# Altium schematic symbol library jlcpcb_2025_04_inductors_extended_1210.schlib: 422 symbols (part 3 of 8)
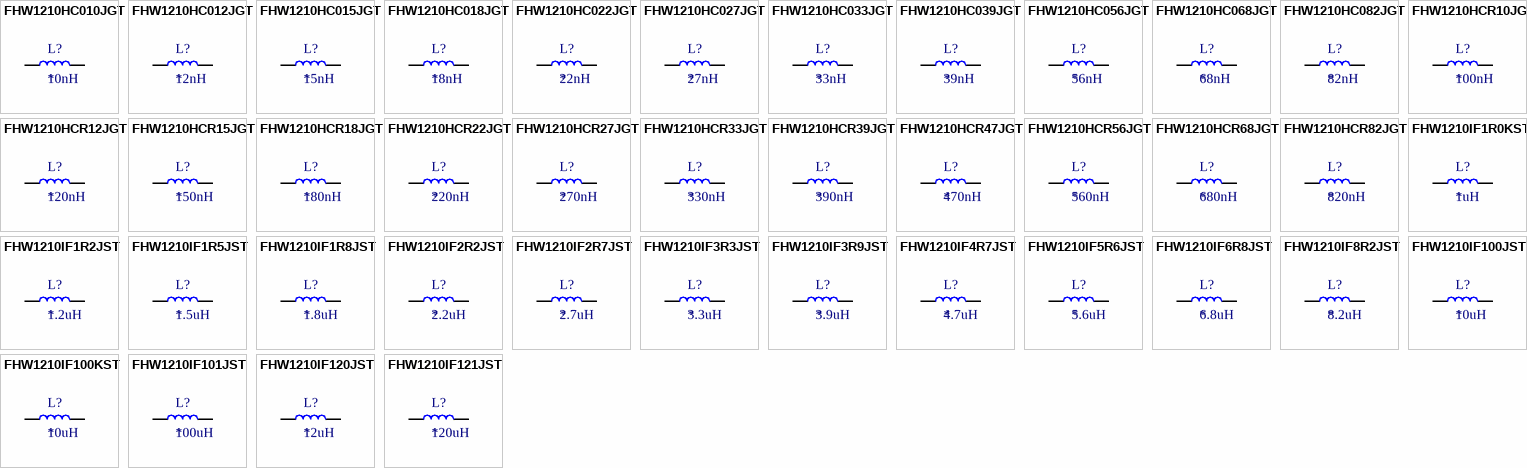
[diagram p12: symbols FHW1210HC010JGT to FHW1210IF121JST]

## FHW1210IF1R2JST
designator L?  Inductance: 1.2uH
Inductor, 1.2uH, ±5%, 300mΩ, 450mA, SMD 1210; Manufacturer: FH(Guangdong Fenghua Advanced Tech); Manufacturer Part Number: FHW1210IF1R2JST; Self-Resonant Frequency: 210MHz; Q Factor: 12@7.96MHz; Package Size: 1210; JLCPCB Basic Part: No; JLCPCB Part Number: C394082; Supplier 1: LCSC; Category: Inductors; Supplier Part Number 1: C394082; Tolerance: ±5%; Rated Current: 450mA; DC Resistance: 300mΩ; RoHS: Yes; ComponentLink1Description: Datasheet; ComponentLink1URL: https://wmsc.lcsc.com/wmsc/upload/file/pdf/v2/lcsc/2303141830_FH--Guangdong-Fenghua-Advanced-Tech-FHW1210IF1R2JST_C394082.pdf; ComponentLink2Description: JLCPCB Part URL; ComponentLink2URL: https://jlcpcb.com/partdetail/C394082; ComponentLink3Description: LCSC Part URL; ComponentLink3URL: https://lcsc.com/product-detail/Inductors-SMD_FH-Guangdong-Fenghua-Advanced-Tech-FH-Guangdong-Fenghua-Advanced-Tech-FHW1210IF1R2JST_C394082.html
footprint IND-1210 (1210 (3225M) Inductor)
pins: 1, 2

## FHW1210IF1R5JST
designator L?  Inductance: 1.5uH
Inductor, 1.5uH, ±5%, 400mΩ, 450mA, SMD 1210; Manufacturer: FH(Guangdong Fenghua Advanced Tech); Manufacturer Part Number: FHW1210IF1R5JST; Self-Resonant Frequency: 200MHz; Q Factor: 12@7.96MHz; Package Size: 1210; JLCPCB Basic Part: No; JLCPCB Part Number: C394083; Supplier 1: LCSC; Category: Inductors; Supplier Part Number 1: C394083; Tolerance: ±5%; Rated Current: 450mA; DC Resistance: 400mΩ; RoHS: Yes; ComponentLink1Description: Datasheet; ComponentLink1URL: https://wmsc.lcsc.com/wmsc/upload/file/pdf/v2/lcsc/2303141830_FH--Guangdong-Fenghua-Advanced-Tech-FHW1210IF1R5JST_C394083.pdf; ComponentLink2Description: JLCPCB Part URL; ComponentLink2URL: https://jlcpcb.com/partdetail/C394083; ComponentLink3Description: LCSC Part URL; ComponentLink3URL: https://lcsc.com/product-detail/Inductors-SMD_FH-Guangdong-Fenghua-Advanced-Tech-FH-Guangdong-Fenghua-Advanced-Tech-FHW1210IF1R5JST_C394083.html
footprint IND-1210 (1210 (3225M) Inductor)
pins: 1, 2

## FHW1210IF1R8JST
designator L?  Inductance: 1.8uH
Inductor, 1.8uH, ±5%, 500mΩ, 450mA, SMD 1210; Manufacturer: FH(Guangdong Fenghua Advanced Tech); Manufacturer Part Number: FHW1210IF1R8JST; Self-Resonant Frequency: 195MHz; Q Factor: 12@7.96MHz; Package Size: 1210; JLCPCB Basic Part: No; JLCPCB Part Number: C394084; Supplier 1: LCSC; Category: Inductors; Supplier Part Number 1: C394084; Tolerance: ±5%; Rated Current: 450mA; DC Resistance: 500mΩ; RoHS: Yes; ComponentLink1Description: Datasheet; ComponentLink1URL: https://wmsc.lcsc.com/wmsc/upload/file/pdf/v2/lcsc/2303141830_FH--Guangdong-Fenghua-Advanced-Tech-FHW1210IF1R8JST_C394084.pdf; ComponentLink2Description: JLCPCB Part URL; ComponentLink2URL: https://jlcpcb.com/partdetail/C394084; ComponentLink3Description: LCSC Part URL; ComponentLink3URL: https://lcsc.com/product-detail/Inductors-SMD_FH-Guangdong-Fenghua-Advanced-Tech-FH-Guangdong-Fenghua-Advanced-Tech-FHW1210IF1R8JST_C394084.html
footprint IND-1210 (1210 (3225M) Inductor)
pins: 1, 2

## FHW1210IF2R2JST
designator L?  Inductance: 2.2uH
Inductor, 2.2uH, ±5%, 600mΩ, 450mA, SMD 1210; Manufacturer: FH(Guangdong Fenghua Advanced Tech); Manufacturer Part Number: FHW1210IF2R2JST; Self-Resonant Frequency: 175MHz; Q Factor: 12@7.96MHz; Package Size: 1210; JLCPCB Basic Part: No; JLCPCB Part Number: C75646; Supplier 1: LCSC; Category: Inductors; Supplier Part Number 1: C75646; Tolerance: ±5%; Rated Current: 450mA; DC Resistance: 600mΩ; RoHS: Yes; ComponentLink1Description: Datasheet; ComponentLink1URL: https://wmsc.lcsc.com/wmsc/upload/file/pdf/v2/lcsc/2303141630_FH--Guangdong-Fenghua-Advanced-Tech-FHW1210IF2R2JST_C75646.pdf; ComponentLink2Description: JLCPCB Part URL; ComponentLink2URL: https://jlcpcb.com/partdetail/C75646; ComponentLink3Description: LCSC Part URL; ComponentLink3URL: https://lcsc.com/product-detail/Inductors-SMD_FH-Guangdong-Fenghua-Advanced-Tech-FH-Guangdong-Fenghua-Advanced-Tech-FHW1210IF2R2JST_C75646.html
footprint IND-1210 (1210 (3225M) Inductor)
pins: 1, 2

## FHW1210IF2R7JST
designator L?  Inductance: 2.7uH
Inductor, 2.7uH, ±5%, 700mΩ, 420mA, SMD 1210; Manufacturer: FH(Guangdong Fenghua Advanced Tech); Manufacturer Part Number: FHW1210IF2R7JST; Self-Resonant Frequency: 120MHz; Q Factor: 12@7.96MHz; Package Size: 1210; JLCPCB Basic Part: No; JLCPCB Part Number: C394085; Supplier 1: LCSC; Category: Inductors; Supplier Part Number 1: C394085; Tolerance: ±5%; Rated Current: 420mA; DC Resistance: 700mΩ; RoHS: Yes; ComponentLink1Description: Datasheet; ComponentLink1URL: https://wmsc.lcsc.com/wmsc/upload/file/pdf/v2/lcsc/2303141830_FH--Guangdong-Fenghua-Advanced-Tech-FHW1210IF2R7JST_C394085.pdf; ComponentLink2Description: JLCPCB Part URL; ComponentLink2URL: https://jlcpcb.com/partdetail/C394085; ComponentLink3Description: LCSC Part URL; ComponentLink3URL: https://lcsc.com/product-detail/Inductors-SMD_FH-Guangdong-Fenghua-Advanced-Tech-FH-Guangdong-Fenghua-Advanced-Tech-FHW1210IF2R7JST_C394085.html
footprint IND-1210 (1210 (3225M) Inductor)
pins: 1, 2

## FHW1210IF3R3JST
designator L?  Inductance: 3.3uH
Inductor, 3.3uH, ±5%, 1.1Ω, 380mA, SMD 1210; Manufacturer: FH(Guangdong Fenghua Advanced Tech); Manufacturer Part Number: FHW1210IF3R3JST; Self-Resonant Frequency: 80MHz; Q Factor: 12@7.96MHz; Package Size: 1210; JLCPCB Basic Part: No; JLCPCB Part Number: C75647; Supplier 1: LCSC; Category: Inductors; Supplier Part Number 1: C75647; Tolerance: ±5%; Rated Current: 380mA; DC Resistance: 1.1Ω; RoHS: Yes; ComponentLink1Description: Datasheet; ComponentLink1URL: https://wmsc.lcsc.com/wmsc/upload/file/pdf/v2/lcsc/2303141630_FH--Guangdong-Fenghua-Advanced-Tech-FHW1210IF3R3JST_C75647.pdf; ComponentLink2Description: JLCPCB Part URL; ComponentLink2URL: https://jlcpcb.com/partdetail/C75647; ComponentLink3Description: LCSC Part URL; ComponentLink3URL: https://lcsc.com/product-detail/Inductors-SMD_FH-Guangdong-Fenghua-Advanced-Tech-FH-Guangdong-Fenghua-Advanced-Tech-FHW1210IF3R3JST_C75647.html
footprint IND-1210 (1210 (3225M) Inductor)
pins: 1, 2

## FHW1210IF3R9JST
designator L?  Inductance: 3.9uH
Inductor, 3.9uH, ±5%, 1.2Ω, 360mA, SMD 1210; Manufacturer: FH(Guangdong Fenghua Advanced Tech); Manufacturer Part Number: FHW1210IF3R9JST; Self-Resonant Frequency: 75MHz; Q Factor: 12@7.96MHz; Package Size: 1210; JLCPCB Basic Part: No; JLCPCB Part Number: C394086; Supplier 1: LCSC; Category: Inductors; Supplier Part Number 1: C394086; Tolerance: ±5%; Rated Current: 360mA; DC Resistance: 1.2Ω; RoHS: Yes; ComponentLink1Description: Datasheet; ComponentLink1URL: https://wmsc.lcsc.com/wmsc/upload/file/pdf/v2/lcsc/2303141830_FH--Guangdong-Fenghua-Advanced-Tech-FHW1210IF3R9JST_C394086.pdf; ComponentLink2Description: JLCPCB Part URL; ComponentLink2URL: https://jlcpcb.com/partdetail/C394086; ComponentLink3Description: LCSC Part URL; ComponentLink3URL: https://lcsc.com/product-detail/Inductors-SMD_FH-Guangdong-Fenghua-Advanced-Tech-FH-Guangdong-Fenghua-Advanced-Tech-FHW1210IF3R9JST_C394086.html
footprint IND-1210 (1210 (3225M) Inductor)
pins: 1, 2

## FHW1210IF4R7JST
designator L?  Inductance: 4.7uH
Inductor, 4.7uH, ±5%, 1.3Ω, 350mA, SMD 1210; Manufacturer: FH(Guangdong Fenghua Advanced Tech); Manufacturer Part Number: FHW1210IF4R7JST; Self-Resonant Frequency: 60MHz; Q Factor: 12@7.96MHz; Package Size: 1210; JLCPCB Basic Part: No; JLCPCB Part Number: C75642; Supplier 1: LCSC; Category: Inductors; Supplier Part Number 1: C75642; Tolerance: ±5%; Rated Current: 350mA; DC Resistance: 1.3Ω; RoHS: Yes; ComponentLink1Description: Datasheet; ComponentLink1URL: https://wmsc.lcsc.com/wmsc/upload/file/pdf/v2/lcsc/2303141630_FH--Guangdong-Fenghua-Advanced-Tech-FHW1210IF4R7JST_C75642.pdf; ComponentLink2Description: JLCPCB Part URL; ComponentLink2URL: https://jlcpcb.com/partdetail/C75642; ComponentLink3Description: LCSC Part URL; ComponentLink3URL: https://lcsc.com/product-detail/Inductors-SMD_FH-Guangdong-Fenghua-Advanced-Tech-FH-Guangdong-Fenghua-Advanced-Tech-FHW1210IF4R7JST_C75642.html
footprint IND-1210 (1210 (3225M) Inductor)
pins: 1, 2

## FHW1210IF5R6JST
designator L?  Inductance: 5.6uH
Inductor, 5.6uH, ±5%, 2Ω, 320mA, SMD 1210; Manufacturer: FH(Guangdong Fenghua Advanced Tech); Manufacturer Part Number: FHW1210IF5R6JST; Self-Resonant Frequency: 50MHz; Q Factor: 12@7.96MHz; Package Size: 1210; JLCPCB Basic Part: No; JLCPCB Part Number: C394087; Supplier 1: LCSC; Category: Inductors; Supplier Part Number 1: C394087; Tolerance: ±5%; Rated Current: 320mA; DC Resistance: 2Ω; RoHS: Yes; ComponentLink1Description: Datasheet; ComponentLink1URL: https://wmsc.lcsc.com/wmsc/upload/file/pdf/v2/lcsc/2303141830_FH--Guangdong-Fenghua-Advanced-Tech-FHW1210IF5R6JST_C394087.pdf; ComponentLink2Description: JLCPCB Part URL; ComponentLink2URL: https://jlcpcb.com/partdetail/C394087; ComponentLink3Description: LCSC Part URL; ComponentLink3URL: https://lcsc.com/product-detail/Inductors-SMD_FH-Guangdong-Fenghua-Advanced-Tech-FH-Guangdong-Fenghua-Advanced-Tech-FHW1210IF5R6JST_C394087.html
footprint IND-1210 (1210 (3225M) Inductor)
pins: 1, 2

## FHW1210IF6R8JST
designator L?  Inductance: 6.8uH
Inductor, 6.8uH, ±5%, 1.5Ω, 310mA, SMD 1210; Manufacturer: FH(Guangdong Fenghua Advanced Tech); Manufacturer Part Number: FHW1210IF6R8JST; Self-Resonant Frequency: 35MHz; Q Factor: 12@7.96MHz; Package Size: 1210; JLCPCB Basic Part: No; JLCPCB Part Number: C394088; Supplier 1: LCSC; Category: Inductors; Supplier Part Number 1: C394088; Tolerance: ±5%; Rated Current: 310mA; DC Resistance: 1.5Ω; RoHS: Yes; ComponentLink1Description: Datasheet; ComponentLink1URL: https://wmsc.lcsc.com/wmsc/upload/file/pdf/v2/lcsc/2303141830_FH--Guangdong-Fenghua-Advanced-Tech-FHW1210IF6R8JST_C394088.pdf; ComponentLink2Description: JLCPCB Part URL; ComponentLink2URL: https://jlcpcb.com/partdetail/C394088; ComponentLink3Description: LCSC Part URL; ComponentLink3URL: https://lcsc.com/product-detail/Inductors-SMD_FH-Guangdong-Fenghua-Advanced-Tech-FH-Guangdong-Fenghua-Advanced-Tech-FHW1210IF6R8JST_C394088.html
footprint IND-1210 (1210 (3225M) Inductor)
pins: 1, 2

## FHW1210IF8R2JST
designator L?  Inductance: 8.2uH
Inductor, 8.2uH, ±5%, 1.6Ω, 305mA, SMD 1210; Manufacturer: FH(Guangdong Fenghua Advanced Tech); Manufacturer Part Number: FHW1210IF8R2JST; Self-Resonant Frequency: 35MHz; Q Factor: 12@7.96MHz; Package Size: 1210; JLCPCB Basic Part: No; JLCPCB Part Number: C394089; Supplier 1: LCSC; Category: Inductors; Supplier Part Number 1: C394089; Tolerance: ±5%; Rated Current: 305mA; DC Resistance: 1.6Ω; RoHS: Yes; ComponentLink1Description: Datasheet; ComponentLink1URL: https://wmsc.lcsc.com/wmsc/upload/file/pdf/v2/lcsc/2303141830_FH--Guangdong-Fenghua-Advanced-Tech-FHW1210IF8R2JST_C394089.pdf; ComponentLink2Description: JLCPCB Part URL; ComponentLink2URL: https://jlcpcb.com/partdetail/C394089; ComponentLink3Description: LCSC Part URL; ComponentLink3URL: https://lcsc.com/product-detail/Inductors-SMD_FH-Guangdong-Fenghua-Advanced-Tech-FH-Guangdong-Fenghua-Advanced-Tech-FHW1210IF8R2JST_C394089.html
footprint IND-1210 (1210 (3225M) Inductor)
pins: 1, 2

## FHW1210IF100JST
designator L?  Inductance: 10uH
Inductor, 10uH, ±5%, 1Ω, 300mA, SMD 1210; Manufacturer: FH(Guangdong Fenghua Advanced Tech); Manufacturer Part Number: FHW1210IF100JST; Self-Resonant Frequency: 30MHz; Q Factor: 10@2.52MHz; Package Size: 1210; JLCPCB Basic Part: No; JLCPCB Part Number: C75643; Supplier 1: LCSC; Category: Inductors; Supplier Part Number 1: C75643; Tolerance: ±5%; Rated Current: 300mA; DC Resistance: 1Ω; RoHS: Yes; ComponentLink1Description: Datasheet; ComponentLink1URL: https://wmsc.lcsc.com/wmsc/upload/file/pdf/v2/lcsc/2303141630_FH--Guangdong-Fenghua-Advanced-Tech-FHW1210IF100JST_C75643.pdf; ComponentLink2Description: JLCPCB Part URL; ComponentLink2URL: https://jlcpcb.com/partdetail/C75643; ComponentLink3Description: LCSC Part URL; ComponentLink3URL: https://lcsc.com/product-detail/Inductors-SMD_FH-Guangdong-Fenghua-Advanced-Tech-FH-Guangdong-Fenghua-Advanced-Tech-FHW1210IF100JST_C75643.html
footprint IND-1210 (1210 (3225M) Inductor)
pins: 1, 2

## FHW1210IF100KST
designator L?  Inductance: 10uH
Inductor, 10uH, ±10%, SMD 1210; Manufacturer: FH (Guangdong Fenghua Advanced Tech); Manufacturer Part Number: FHW1210IF100KST; Package Size: 1210; JLCPCB Basic Part: No; JLCPCB Part Number: C2939820; Supplier 1: LCSC; Category: Inductors; Supplier Part Number 1: C2939820; Tolerance: ±10%; RoHS: Yes; ComponentLink1Description: Datasheet; ComponentLink1URL: https://wmsc.lcsc.com/wmsc/upload/file/pdf/v2/lcsc/2303141800_FH--Guangdong-Fenghua-Advanced-Tech-FHW1210IF100KST_C2939820.pdf; ComponentLink2Description: JLCPCB Part URL; ComponentLink2URL: https://jlcpcb.com/partdetail/C2939820; ComponentLink3Description: LCSC Part URL; ComponentLink3URL: https://lcsc.com/product-detail/Inductors-SMD_FH-Guangdong-Fenghua-Advanced-Tech-FH-Guangdong-Fenghua-Advanced-Tech-FHW1210IF100KST_C2939820.html
footprint IND-1210 (1210 (3225M) Inductor)
pins: 1, 2

## FHW1210IF101JST
designator L?  Inductance: 100uH
Inductor, 100uH, ±5%, 6.8Ω, 95mA, SMD 1210; Manufacturer: FH(Guangdong Fenghua Advanced Tech); Manufacturer Part Number: FHW1210IF101JST; Self-Resonant Frequency: 5MHz; Q Factor: 8@796kHz; Package Size: 1210; JLCPCB Basic Part: No; JLCPCB Part Number: C394100; Supplier 1: LCSC; Category: Inductors; Supplier Part Number 1: C394100; Tolerance: ±5%; Rated Current: 95mA; DC Resistance: 6.8Ω; RoHS: Yes; ComponentLink1Description: Datasheet; ComponentLink1URL: https://wmsc.lcsc.com/wmsc/upload/file/pdf/v2/lcsc/2303141830_FH--Guangdong-Fenghua-Advanced-Tech-FHW1210IF101JST_C394100.pdf; ComponentLink2Description: JLCPCB Part URL; ComponentLink2URL: https://jlcpcb.com/partdetail/C394100; ComponentLink3Description: LCSC Part URL; ComponentLink3URL: https://lcsc.com/product-detail/Inductors-SMD_FH-Guangdong-Fenghua-Advanced-Tech-FH-Guangdong-Fenghua-Advanced-Tech-FHW1210IF101JST_C394100.html
footprint IND-1210 (1210 (3225M) Inductor)
pins: 1, 2

## FHW1210IF120JST
designator L?  Inductance: 12uH
Inductor, 12uH, ±5%, 1.2Ω, 265mA, SMD 1210; Manufacturer: FH(Guangdong Fenghua Advanced Tech); Manufacturer Part Number: FHW1210IF120JST; Self-Resonant Frequency: 25MHz; Q Factor: 10@2.52MHz; Package Size: 1210; JLCPCB Basic Part: No; JLCPCB Part Number: C394090; Supplier 1: LCSC; Category: Inductors; Supplier Part Number 1: C394090; Tolerance: ±5%; Rated Current: 265mA; DC Resistance: 1.2Ω; RoHS: Yes; ComponentLink1Description: Datasheet; ComponentLink1URL: https://wmsc.lcsc.com/wmsc/upload/file/pdf/v2/lcsc/2303141830_FH--Guangdong-Fenghua-Advanced-Tech-FHW1210IF120JST_C394090.pdf; ComponentLink2Description: JLCPCB Part URL; ComponentLink2URL: https://jlcpcb.com/partdetail/C394090; ComponentLink3Description: LCSC Part URL; ComponentLink3URL: https://lcsc.com/product-detail/Inductors-SMD_FH-Guangdong-Fenghua-Advanced-Tech-FH-Guangdong-Fenghua-Advanced-Tech-FHW1210IF120JST_C394090.html
footprint IND-1210 (1210 (3225M) Inductor)
pins: 1, 2

## FHW1210IF121JST
designator L?  Inductance: 120uH
Inductor, 120uH, ±5%, 7.9Ω, 85mA, SMD 1210; Manufacturer: FH(Guangdong Fenghua Advanced Tech); Manufacturer Part Number: FHW1210IF121JST; Self-Resonant Frequency: 4MHz; Q Factor: 8@796kHz; Package Size: 1210; JLCPCB Basic Part: No; JLCPCB Part Number: C394101; Supplier 1: LCSC; Category: Inductors; Supplier Part Number 1: C394101; Tolerance: ±5%; Rated Current: 85mA; DC Resistance: 7.9Ω; RoHS: Yes; ComponentLink1Description: Datasheet; ComponentLink1URL: https://wmsc.lcsc.com/wmsc/upload/file/pdf/v2/lcsc/2303141830_FH--Guangdong-Fenghua-Advanced-Tech-FHW1210IF121JST_C394101.pdf; ComponentLink2Description: JLCPCB Part URL; ComponentLink2URL: https://jlcpcb.com/partdetail/C394101; ComponentLink3Description: LCSC Part URL; ComponentLink3URL: https://lcsc.com/product-detail/Inductors-SMD_FH-Guangdong-Fenghua-Advanced-Tech-FH-Guangdong-Fenghua-Advanced-Tech-FHW1210IF121JST_C394101.html
footprint IND-1210 (1210 (3225M) Inductor)
pins: 1, 2

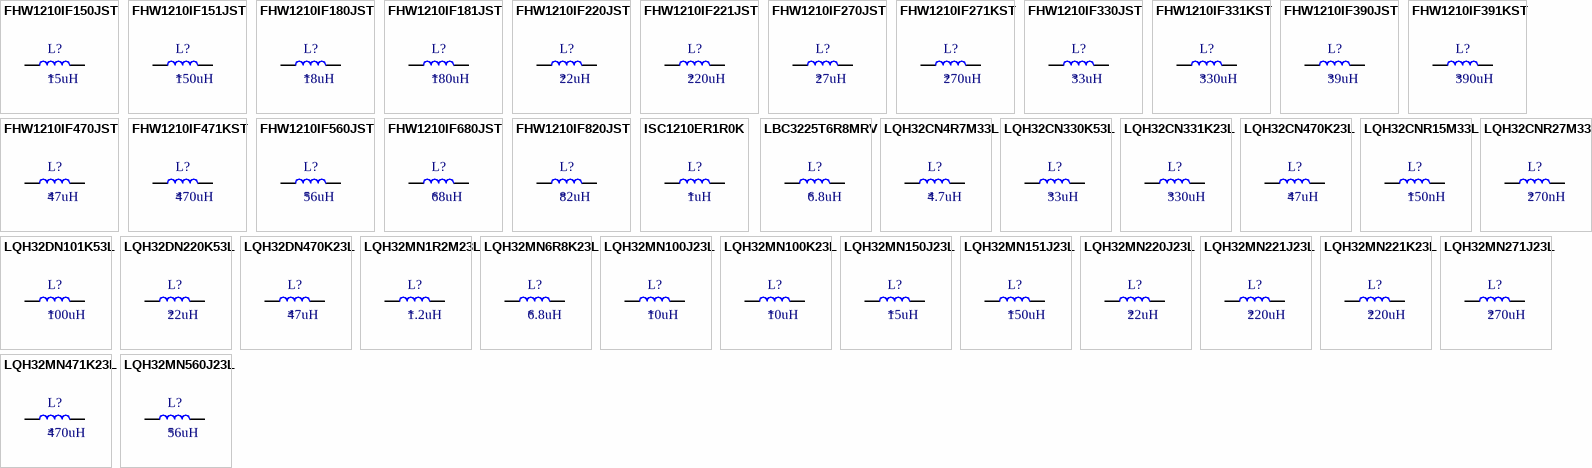
[diagram p3: symbols FHW1210IF150JST to LQH32MN560J23L]

## FHW1210IF150JST
designator L?  Inductance: 15uH
Inductor, 15uH, ±5%, 2Ω, 225mA, SMD 1210; Manufacturer: FH(Guangdong Fenghua Advanced Tech); Manufacturer Part Number: FHW1210IF150JST; Self-Resonant Frequency: 22MHz; Q Factor: 10@2.52MHz; Package Size: 1210; JLCPCB Basic Part: No; JLCPCB Part Number: C394091; Supplier 1: LCSC; Category: Inductors; Supplier Part Number 1: C394091; Tolerance: ±5%; Rated Current: 225mA; DC Resistance: 2Ω; RoHS: Yes; ComponentLink1Description: Datasheet; ComponentLink1URL: https://wmsc.lcsc.com/wmsc/upload/file/pdf/v2/lcsc/2303141830_FH--Guangdong-Fenghua-Advanced-Tech-FHW1210IF150JST_C394091.pdf; ComponentLink2Description: JLCPCB Part URL; ComponentLink2URL: https://jlcpcb.com/partdetail/C394091; ComponentLink3Description: LCSC Part URL; ComponentLink3URL: https://lcsc.com/product-detail/Inductors-SMD_FH-Guangdong-Fenghua-Advanced-Tech-FH-Guangdong-Fenghua-Advanced-Tech-FHW1210IF150JST_C394091.html
footprint IND-1210 (1210 (3225M) Inductor)
pins: 1, 2

## FHW1210IF151JST
designator L?  Inductance: 150uH
Inductor, 150uH, ±5%, 9Ω, 80mA, SMD 1210; Manufacturer: FH(Guangdong Fenghua Advanced Tech); Manufacturer Part Number: FHW1210IF151JST; Self-Resonant Frequency: 4MHz; Q Factor: 8@796kHz; Package Size: 1210; JLCPCB Basic Part: No; JLCPCB Part Number: C394102; Supplier 1: LCSC; Category: Inductors; Supplier Part Number 1: C394102; Tolerance: ±5%; Rated Current: 80mA; DC Resistance: 9Ω; RoHS: Yes; ComponentLink1Description: Datasheet; ComponentLink1URL: https://wmsc.lcsc.com/wmsc/upload/file/pdf/v2/lcsc/2303141830_FH--Guangdong-Fenghua-Advanced-Tech-FHW1210IF151JST_C394102.pdf; ComponentLink2Description: JLCPCB Part URL; ComponentLink2URL: https://jlcpcb.com/partdetail/C394102; ComponentLink3Description: LCSC Part URL; ComponentLink3URL: https://lcsc.com/product-detail/Inductors-SMD_FH-Guangdong-Fenghua-Advanced-Tech-FH-Guangdong-Fenghua-Advanced-Tech-FHW1210IF151JST_C394102.html
footprint IND-1210 (1210 (3225M) Inductor)
pins: 1, 2

## FHW1210IF180JST
designator L?  Inductance: 18uH
Inductor, 18uH, ±5%, 2.1Ω, 210mA, SMD 1210; Manufacturer: FH(Guangdong Fenghua Advanced Tech); Manufacturer Part Number: FHW1210IF180JST; Self-Resonant Frequency: 22MHz; Q Factor: 10@2.52MHz; Package Size: 1210; JLCPCB Basic Part: No; JLCPCB Part Number: C394092; Supplier 1: LCSC; Category: Inductors; Supplier Part Number 1: C394092; Tolerance: ±5%; Rated Current: 210mA; DC Resistance: 2.1Ω; RoHS: Yes; ComponentLink1Description: Datasheet; ComponentLink1URL: https://wmsc.lcsc.com/wmsc/upload/file/pdf/v2/lcsc/2303141830_FH--Guangdong-Fenghua-Advanced-Tech-FHW1210IF180JST_C394092.pdf; ComponentLink2Description: JLCPCB Part URL; ComponentLink2URL: https://jlcpcb.com/partdetail/C394092; ComponentLink3Description: LCSC Part URL; ComponentLink3URL: https://lcsc.com/product-detail/Inductors-SMD_FH-Guangdong-Fenghua-Advanced-Tech-FH-Guangdong-Fenghua-Advanced-Tech-FHW1210IF180JST_C394092.html
footprint IND-1210 (1210 (3225M) Inductor)
pins: 1, 2

## FHW1210IF181JST
designator L?  Inductance: 180uH
Inductor, 180uH, ±5%, 14.5Ω, 70mA, SMD 1210; Manufacturer: FH(Guangdong Fenghua Advanced Tech); Manufacturer Part Number: FHW1210IF181JST; Self-Resonant Frequency: 3MHz; Q Factor: 8@796kHz; Package Size: 1210; JLCPCB Basic Part: No; JLCPCB Part Number: C394103; Supplier 1: LCSC; Category: Inductors; Supplier Part Number 1: C394103; Tolerance: ±5%; Rated Current: 70mA; DC Resistance: 14.5Ω; RoHS: Yes; ComponentLink1Description: Datasheet; ComponentLink1URL: https://wmsc.lcsc.com/wmsc/upload/file/pdf/v2/lcsc/2303141830_FH--Guangdong-Fenghua-Advanced-Tech-FHW1210IF181JST_C394103.pdf; ComponentLink2Description: JLCPCB Part URL; ComponentLink2URL: https://jlcpcb.com/partdetail/C394103; ComponentLink3Description: LCSC Part URL; ComponentLink3URL: https://lcsc.com/product-detail/Inductors-SMD_FH-Guangdong-Fenghua-Advanced-Tech-FH-Guangdong-Fenghua-Advanced-Tech-FHW1210IF181JST_C394103.html
footprint IND-1210 (1210 (3225M) Inductor)
pins: 1, 2

## FHW1210IF220JST
designator L?  Inductance: 22uH
Inductor, 22uH, ±5%, 2.4Ω, 200mA, SMD 1210; Manufacturer: FH(Guangdong Fenghua Advanced Tech); Manufacturer Part Number: FHW1210IF220JST; Self-Resonant Frequency: 20MHz; Q Factor: 10@2.52MHz; Package Size: 1210; JLCPCB Basic Part: No; JLCPCB Part Number: C394093; Supplier 1: LCSC; Category: Inductors; Supplier Part Number 1: C394093; Tolerance: ±5%; Rated Current: 200mA; DC Resistance: 2.4Ω; RoHS: Yes; ComponentLink1Description: Datasheet; ComponentLink1URL: https://wmsc.lcsc.com/wmsc/upload/file/pdf/v2/lcsc/2303141830_FH--Guangdong-Fenghua-Advanced-Tech-FHW1210IF220JST_C394093.pdf; ComponentLink2Description: JLCPCB Part URL; ComponentLink2URL: https://jlcpcb.com/partdetail/C394093; ComponentLink3Description: LCSC Part URL; ComponentLink3URL: https://lcsc.com/product-detail/Inductors-SMD_FH-Guangdong-Fenghua-Advanced-Tech-FH-Guangdong-Fenghua-Advanced-Tech-FHW1210IF220JST_C394093.html
footprint IND-1210 (1210 (3225M) Inductor)
pins: 1, 2

## FHW1210IF221JST
designator L?  Inductance: 220uH
Inductor, 220uH, ±5%, 16.5Ω, 65mA, SMD 1210; Manufacturer: FH(Guangdong Fenghua Advanced Tech); Manufacturer Part Number: FHW1210IF221JST; Self-Resonant Frequency: 2.6MHz; Q Factor: 8@796kHz; Package Size: 1210; JLCPCB Basic Part: No; JLCPCB Part Number: C394104; Supplier 1: LCSC; Category: Inductors; Supplier Part Number 1: C394104; Tolerance: ±5%; Rated Current: 65mA; DC Resistance: 16.5Ω; RoHS: Yes; ComponentLink1Description: Datasheet; ComponentLink1URL: https://wmsc.lcsc.com/wmsc/upload/file/pdf/v2/lcsc/2303141830_FH--Guangdong-Fenghua-Advanced-Tech-FHW1210IF221JST_C394104.pdf; ComponentLink2Description: JLCPCB Part URL; ComponentLink2URL: https://jlcpcb.com/partdetail/C394104; ComponentLink3Description: LCSC Part URL; ComponentLink3URL: https://lcsc.com/product-detail/Inductors-SMD_FH-Guangdong-Fenghua-Advanced-Tech-FH-Guangdong-Fenghua-Advanced-Tech-FHW1210IF221JST_C394104.html
footprint IND-1210 (1210 (3225M) Inductor)
pins: 1, 2

## FHW1210IF270JST
designator L?  Inductance: 27uH
Inductor, 27uH, ±5%, 2.7Ω, 180mA, SMD 1210; Manufacturer: FH(Guangdong Fenghua Advanced Tech); Manufacturer Part Number: FHW1210IF270JST; Self-Resonant Frequency: 18MHz; Q Factor: 10@2.52MHz; Package Size: 1210; JLCPCB Basic Part: No; JLCPCB Part Number: C394094; Supplier 1: LCSC; Category: Inductors; Supplier Part Number 1: C394094; Tolerance: ±5%; Rated Current: 180mA; DC Resistance: 2.7Ω; RoHS: Yes; ComponentLink1Description: Datasheet; ComponentLink1URL: https://wmsc.lcsc.com/wmsc/upload/file/pdf/v2/lcsc/2303141830_FH--Guangdong-Fenghua-Advanced-Tech-FHW1210IF270JST_C394094.pdf; ComponentLink2Description: JLCPCB Part URL; ComponentLink2URL: https://jlcpcb.com/partdetail/C394094; ComponentLink3Description: LCSC Part URL; ComponentLink3URL: https://lcsc.com/product-detail/Inductors-SMD_FH-Guangdong-Fenghua-Advanced-Tech-FH-Guangdong-Fenghua-Advanced-Tech-FHW1210IF270JST_C394094.html
footprint IND-1210 (1210 (3225M) Inductor)
pins: 1, 2

## FHW1210IF271KST
designator L?  Inductance: 270uH
Inductor, 270uH, ±10%, 18Ω, 60mA, SMD 1210; Manufacturer: FH(Guangdong Fenghua Advanced Tech); Manufacturer Part Number: FHW1210IF271KST; Self-Resonant Frequency: 2.5MHz; Q Factor: 8@796kHz; Package Size: 1210; JLCPCB Basic Part: No; JLCPCB Part Number: C394105; Supplier 1: LCSC; Category: Inductors; Supplier Part Number 1: C394105; Tolerance: ±10%; Rated Current: 60mA; DC Resistance: 18Ω; RoHS: Yes; ComponentLink1Description: Datasheet; ComponentLink1URL: https://wmsc.lcsc.com/wmsc/upload/file/pdf/v2/lcsc/2303141830_FH--Guangdong-Fenghua-Advanced-Tech-FHW1210IF271KST_C394105.pdf; ComponentLink2Description: JLCPCB Part URL; ComponentLink2URL: https://jlcpcb.com/partdetail/C394105; ComponentLink3Description: LCSC Part URL; ComponentLink3URL: https://lcsc.com/product-detail/Inductors-SMD_FH-Guangdong-Fenghua-Advanced-Tech-FH-Guangdong-Fenghua-Advanced-Tech-FHW1210IF271KST_C394105.html
footprint IND-1210 (1210 (3225M) Inductor)
pins: 1, 2

## FHW1210IF330JST
designator L?  Inductance: 33uH
Inductor, 33uH, ±5%, 2.9Ω, 160mA, SMD 1210; Manufacturer: FH(Guangdong Fenghua Advanced Tech); Manufacturer Part Number: FHW1210IF330JST; Self-Resonant Frequency: 15MHz; Q Factor: 10@2.52MHz; Package Size: 1210; JLCPCB Basic Part: No; JLCPCB Part Number: C75645; Supplier 1: LCSC; Category: Inductors; Supplier Part Number 1: C75645; Tolerance: ±5%; Rated Current: 160mA; DC Resistance: 2.9Ω; RoHS: Yes; ComponentLink1Description: Datasheet; ComponentLink1URL: https://wmsc.lcsc.com/wmsc/upload/file/pdf/v2/lcsc/2303141630_FH--Guangdong-Fenghua-Advanced-Tech-FHW1210IF330JST_C75645.pdf; ComponentLink2Description: JLCPCB Part URL; ComponentLink2URL: https://jlcpcb.com/partdetail/C75645; ComponentLink3Description: LCSC Part URL; ComponentLink3URL: https://lcsc.com/product-detail/Inductors-SMD_FH-Guangdong-Fenghua-Advanced-Tech-FH-Guangdong-Fenghua-Advanced-Tech-FHW1210IF330JST_C75645.html
footprint IND-1210 (1210 (3225M) Inductor)
pins: 1, 2

## FHW1210IF331KST
designator L?  Inductance: 330uH
Inductor, 330uH, ±10%, 19Ω, 55mA, SMD 1210; Manufacturer: FH(Guangdong Fenghua Advanced Tech); Manufacturer Part Number: FHW1210IF331KST; Self-Resonant Frequency: 2.3MHz; Q Factor: 8@796kHz; Package Size: 1210; JLCPCB Basic Part: No; JLCPCB Part Number: C394106; Supplier 1: LCSC; Category: Inductors; Supplier Part Number 1: C394106; Tolerance: ±10%; Rated Current: 55mA; DC Resistance: 19Ω; RoHS: Yes; ComponentLink1Description: Datasheet; ComponentLink1URL: https://wmsc.lcsc.com/wmsc/upload/file/pdf/v2/lcsc/2303141830_FH--Guangdong-Fenghua-Advanced-Tech-FHW1210IF331KST_C394106.pdf; ComponentLink2Description: JLCPCB Part URL; ComponentLink2URL: https://jlcpcb.com/partdetail/C394106; ComponentLink3Description: LCSC Part URL; ComponentLink3URL: https://lcsc.com/product-detail/Inductors-SMD_FH-Guangdong-Fenghua-Advanced-Tech-FH-Guangdong-Fenghua-Advanced-Tech-FHW1210IF331KST_C394106.html
footprint IND-1210 (1210 (3225M) Inductor)
pins: 1, 2

## FHW1210IF390JST
designator L?  Inductance: 39uH
Inductor, 39uH, ±5%, 4.7Ω, 150mA, SMD 1210; Manufacturer: FH(Guangdong Fenghua Advanced Tech); Manufacturer Part Number: FHW1210IF390JST; Self-Resonant Frequency: 16MHz; Q Factor: 10@2.52MHz; Package Size: 1210; JLCPCB Basic Part: No; JLCPCB Part Number: C394095; Supplier 1: LCSC; Category: Inductors; Supplier Part Number 1: C394095; Tolerance: ±5%; Rated Current: 150mA; DC Resistance: 4.7Ω; RoHS: Yes; ComponentLink1Description: Datasheet; ComponentLink1URL: https://wmsc.lcsc.com/wmsc/upload/file/pdf/v2/lcsc/2303141830_FH--Guangdong-Fenghua-Advanced-Tech-FHW1210IF390JST_C394095.pdf; ComponentLink2Description: JLCPCB Part URL; ComponentLink2URL: https://jlcpcb.com/partdetail/C394095; ComponentLink3Description: LCSC Part URL; ComponentLink3URL: https://lcsc.com/product-detail/Inductors-SMD_FH-Guangdong-Fenghua-Advanced-Tech-FH-Guangdong-Fenghua-Advanced-Tech-FHW1210IF390JST_C394095.html
footprint IND-1210 (1210 (3225M) Inductor)
pins: 1, 2

## FHW1210IF391KST
designator L?  Inductance: 390uH
Inductor, 390uH, ±10%, 21.5Ω, 45mA, SMD 1210; Manufacturer: FH(Guangdong Fenghua Advanced Tech); Manufacturer Part Number: FHW1210IF391KST; Self-Resonant Frequency: 2.2MHz; Q Factor: 8@796kHz; Package Size: 1210; JLCPCB Basic Part: No; JLCPCB Part Number: C394107; Supplier 1: LCSC; Category: Inductors; Supplier Part Number 1: C394107; Tolerance: ±10%; Rated Current: 45mA; DC Resistance: 21.5Ω; RoHS: Yes; ComponentLink1Description: Datasheet; ComponentLink1URL: https://wmsc.lcsc.com/wmsc/upload/file/pdf/v2/lcsc/2303141830_FH--Guangdong-Fenghua-Advanced-Tech-FHW1210IF391KST_C394107.pdf; ComponentLink2Description: JLCPCB Part URL; ComponentLink2URL: https://jlcpcb.com/partdetail/C394107; ComponentLink3Description: LCSC Part URL; ComponentLink3URL: https://lcsc.com/product-detail/Inductors-SMD_FH-Guangdong-Fenghua-Advanced-Tech-FH-Guangdong-Fenghua-Advanced-Tech-FHW1210IF391KST_C394107.html
footprint IND-1210 (1210 (3225M) Inductor)
pins: 1, 2

## FHW1210IF470JST
designator L?  Inductance: 47uH
Inductor, 47uH, ±5%, 5.2Ω, 140mA, SMD 1210; Manufacturer: FH(Guangdong Fenghua Advanced Tech); Manufacturer Part Number: FHW1210IF470JST; Self-Resonant Frequency: 10MHz; Q Factor: 10@2.52MHz; Package Size: 1210; JLCPCB Basic Part: No; JLCPCB Part Number: C394096; Supplier 1: LCSC; Category: Inductors; Supplier Part Number 1: C394096; Tolerance: ±5%; Rated Current: 140mA; DC Resistance: 5.2Ω; RoHS: Yes; ComponentLink1Description: Datasheet; ComponentLink1URL: https://wmsc.lcsc.com/wmsc/upload/file/pdf/v2/lcsc/2303141830_FH--Guangdong-Fenghua-Advanced-Tech-FHW1210IF470JST_C394096.pdf; ComponentLink2Description: JLCPCB Part URL; ComponentLink2URL: https://jlcpcb.com/partdetail/C394096; ComponentLink3Description: LCSC Part URL; ComponentLink3URL: https://lcsc.com/product-detail/Inductors-SMD_FH-Guangdong-Fenghua-Advanced-Tech-FH-Guangdong-Fenghua-Advanced-Tech-FHW1210IF470JST_C394096.html
footprint IND-1210 (1210 (3225M) Inductor)
pins: 1, 2

## FHW1210IF471KST
designator L?  Inductance: 470uH
Inductor, 470uH, ±10%, 22.5Ω, 40mA, SMD 1210; Manufacturer: FH(Guangdong Fenghua Advanced Tech); Manufacturer Part Number: FHW1210IF471KST; Self-Resonant Frequency: 2MHz; Q Factor: 8@796kHz; Package Size: 1210; JLCPCB Basic Part: No; JLCPCB Part Number: C75644; Supplier 1: LCSC; Category: Inductors; Supplier Part Number 1: C75644; Tolerance: ±10%; Rated Current: 40mA; DC Resistance: 22.5Ω; RoHS: Yes; ComponentLink1Description: Datasheet; ComponentLink1URL: https://wmsc.lcsc.com/wmsc/upload/file/pdf/v2/lcsc/2303141630_FH--Guangdong-Fenghua-Advanced-Tech-FHW1210IF471KST_C75644.pdf; ComponentLink2Description: JLCPCB Part URL; ComponentLink2URL: https://jlcpcb.com/partdetail/C75644; ComponentLink3Description: LCSC Part URL; ComponentLink3URL: https://lcsc.com/product-detail/Inductors-SMD_FH-Guangdong-Fenghua-Advanced-Tech-FH-Guangdong-Fenghua-Advanced-Tech-FHW1210IF471KST_C75644.html
footprint IND-1210 (1210 (3225M) Inductor)
pins: 1, 2

## FHW1210IF560JST
designator L?  Inductance: 56uH
Inductor, 56uH, ±5%, 5.6Ω, 125mA, SMD 1210; Manufacturer: FH(Guangdong Fenghua Advanced Tech); Manufacturer Part Number: FHW1210IF560JST; Self-Resonant Frequency: 8MHz; Q Factor: 10@2.52MHz; Package Size: 1210; JLCPCB Basic Part: No; JLCPCB Part Number: C394097; Supplier 1: LCSC; Category: Inductors; Supplier Part Number 1: C394097; Tolerance: ±5%; Rated Current: 125mA; DC Resistance: 5.6Ω; RoHS: Yes; ComponentLink1Description: Datasheet; ComponentLink1URL: https://wmsc.lcsc.com/wmsc/upload/file/pdf/v2/lcsc/2303141830_FH--Guangdong-Fenghua-Advanced-Tech-FHW1210IF560JST_C394097.pdf; ComponentLink2Description: JLCPCB Part URL; ComponentLink2URL: https://jlcpcb.com/partdetail/C394097; ComponentLink3Description: LCSC Part URL; ComponentLink3URL: https://lcsc.com/product-detail/Inductors-SMD_FH-Guangdong-Fenghua-Advanced-Tech-FH-Guangdong-Fenghua-Advanced-Tech-FHW1210IF560JST_C394097.html
footprint IND-1210 (1210 (3225M) Inductor)
pins: 1, 2

## FHW1210IF680JST
designator L?  Inductance: 68uH
Inductor, 68uH, ±5%, 4.7Ω, 110mA, SMD 1210; Manufacturer: FH(Guangdong Fenghua Advanced Tech); Manufacturer Part Number: FHW1210IF680JST; Self-Resonant Frequency: 5MHz; Q Factor: 10@2.52MHz; Package Size: 1210; JLCPCB Basic Part: No; JLCPCB Part Number: C394098; Supplier 1: LCSC; Category: Inductors; Supplier Part Number 1: C394098; Tolerance: ±5%; Rated Current: 110mA; DC Resistance: 4.7Ω; RoHS: Yes; ComponentLink1Description: Datasheet; ComponentLink1URL: https://wmsc.lcsc.com/wmsc/upload/file/pdf/v2/lcsc/2303141830_FH--Guangdong-Fenghua-Advanced-Tech-FHW1210IF680JST_C394098.pdf; ComponentLink2Description: JLCPCB Part URL; ComponentLink2URL: https://jlcpcb.com/partdetail/C394098; ComponentLink3Description: LCSC Part URL; ComponentLink3URL: https://lcsc.com/product-detail/Inductors-SMD_FH-Guangdong-Fenghua-Advanced-Tech-FH-Guangdong-Fenghua-Advanced-Tech-FHW1210IF680JST_C394098.html
footprint IND-1210 (1210 (3225M) Inductor)
pins: 1, 2

## FHW1210IF820JST
designator L?  Inductance: 82uH
Inductor, 82uH, ±5%, 5.6Ω, 100mA, SMD 1210; Manufacturer: FH(Guangdong Fenghua Advanced Tech); Manufacturer Part Number: FHW1210IF820JST; Self-Resonant Frequency: 5MHz; Q Factor: 10@2.52MHz; Package Size: 1210; JLCPCB Basic Part: No; JLCPCB Part Number: C394099; Supplier 1: LCSC; Category: Inductors; Supplier Part Number 1: C394099; Tolerance: ±5%; Rated Current: 100mA; DC Resistance: 5.6Ω; RoHS: Yes; ComponentLink1Description: Datasheet; ComponentLink1URL: https://wmsc.lcsc.com/wmsc/upload/file/pdf/v2/lcsc/2303141830_FH--Guangdong-Fenghua-Advanced-Tech-FHW1210IF820JST_C394099.pdf; ComponentLink2Description: JLCPCB Part URL; ComponentLink2URL: https://jlcpcb.com/partdetail/C394099; ComponentLink3Description: LCSC Part URL; ComponentLink3URL: https://lcsc.com/product-detail/Inductors-SMD_FH-Guangdong-Fenghua-Advanced-Tech-FH-Guangdong-Fenghua-Advanced-Tech-FHW1210IF820JST_C394099.html
footprint IND-1210 (1210 (3225M) Inductor)
pins: 1, 2

## ISC1210ER1R0K
designator L?  Inductance: 1uH
Inductor, 1uH, ±10%, 600mΩ, 400mA, SMD 1210; Manufacturer: Vishay Intertech; Manufacturer Part Number: ISC1210ER1R0K; Package Size: 1210; JLCPCB Basic Part: No; JLCPCB Part Number: C511355; Supplier 1: LCSC; Category: Inductors; Supplier Part Number 1: C511355; Tolerance: ±10%; Rated Current: 400mA; DC Resistance: 600mΩ; RoHS: Yes; ComponentLink1Description: Datasheet; ComponentLink1URL: https://wmsc.lcsc.com/wmsc/upload/file/pdf/v2/lcsc/2211030200_Vishay-Intertech-ISC1210ER1R0K_C511355.pdf; ComponentLink2Description: JLCPCB Part URL; ComponentLink2URL: https://jlcpcb.com/partdetail/C511355; ComponentLink3Description: LCSC Part URL; ComponentLink3URL: https://lcsc.com/product-detail/Power-Inductors_Vishay-Intertech-Vishay-Intertech-ISC1210ER1R0K_C511355.html
footprint IND-1210 (1210 (3225M) Inductor)
pins: 1, 2

## LBC3225T6R8MRV
designator L?  Inductance: 6.8uH
Inductor, 6.8uH, ±20%, 120mΩ, 620mA, SMD 1210; Manufacturer: Taiyo Yuden; Manufacturer Part Number: LBC3225T6R8MRV; Package Size: 1210; JLCPCB Basic Part: No; JLCPCB Part Number: C515381; Supplier 1: LCSC; Category: Inductors; Supplier Part Number 1: C515381; Tolerance: ±20%; Rated Current: 620mA; DC Resistance: 120mΩ; RoHS: Yes; ComponentLink1Description: Datasheet; ComponentLink1URL: https://wmsc.lcsc.com/wmsc/upload/file/pdf/v2/lcsc/2009231109_Taiyo-Yuden-LBC3225T6R8MRV_C515381.pdf; ComponentLink2Description: JLCPCB Part URL; ComponentLink2URL: https://jlcpcb.com/partdetail/C515381; ComponentLink3Description: LCSC Part URL; ComponentLink3URL: https://lcsc.com/product-detail/Power-Inductors_Taiyo-Yuden-Taiyo-Yuden-LBC3225T6R8MRV_C515381.html
footprint IND-1210 (1210 (3225M) Inductor)
pins: 1, 2

## LQH32CN4R7M33L
designator L?  Inductance: 4.7uH
Inductor, 4.7uH, ±20%, 0.15Ω, 650mA, SMD 1210; Manufacturer: Murata Electronics; Manufacturer Part Number: LQH32CN4R7M33L; Self-Resonant Frequency: 43MHz; Package Size: 1210; JLCPCB Basic Part: No; JLCPCB Part Number: C113072; Supplier 1: LCSC; Category: Inductors; Supplier Part Number 1: C113072; Tolerance: ±20%; Rated Current: 650mA; DC Resistance: 0.15Ω; RoHS: Yes; ComponentLink1Description: Datasheet; ComponentLink1URL: https://wmsc.lcsc.com/wmsc/upload/file/pdf/v2/lcsc/1810250907_Murata-Electronics-LQH32CN4R7M33L_C113072.pdf; ComponentLink2Description: JLCPCB Part URL; ComponentLink2URL: https://jlcpcb.com/partdetail/C113072; ComponentLink3Description: LCSC Part URL; ComponentLink3URL: https://lcsc.com/product-detail/Inductors-SMD_Murata-Electronics-Murata-Electronics-LQH32CN4R7M33L_C113072.html
footprint IND-1210 (1210 (3225M) Inductor)
pins: 1, 2

## LQH32CN330K53L
designator L?  Inductance: 33uH
Inductor, 33uH, ±10%, 1.1Ω, 200mA, SMD 1210; Manufacturer: Murata Electronics; Manufacturer Part Number: LQH32CN330K53L; Package Size: 1210; JLCPCB Basic Part: No; JLCPCB Part Number: C440218; Supplier 1: LCSC; Category: Inductors; Supplier Part Number 1: C440218; Tolerance: ±10%; Rated Current: 200mA; DC Resistance: 1.1Ω; RoHS: Yes; ComponentLink1Description: Datasheet; ComponentLink1URL: https://wmsc.lcsc.com/wmsc/upload/file/pdf/v2/lcsc/2304140030_Murata-Electronics-LQH32CN330K53L_C440218.pdf; ComponentLink2Description: JLCPCB Part URL; ComponentLink2URL: https://jlcpcb.com/partdetail/C440218; ComponentLink3Description: LCSC Part URL; ComponentLink3URL: https://lcsc.com/product-detail/Power-Inductors_Murata-Electronics-Murata-Electronics-LQH32CN330K53L_C440218.html
footprint IND-1210 (1210 (3225M) Inductor)
pins: 1, 2

## LQH32CN331K23L
designator L?  Inductance: 330uH
Inductor, 330uH, ±10%, 10Ω, 60mA, SMD 1210; Manufacturer: Murata Electronics; Manufacturer Part Number: LQH32CN331K23L; Self-Resonant Frequency: 5.6MHz; Package Size: 1210; JLCPCB Basic Part: No; JLCPCB Part Number: C337903; Supplier 1: LCSC; Category: Inductors; Supplier Part Number 1: C337903; Tolerance: ±10%; Rated Current: 60mA; DC Resistance: 10Ω; RoHS: Yes; ComponentLink1Description: Datasheet; ComponentLink1URL: https://wmsc.lcsc.com/wmsc/upload/file/pdf/v2/lcsc/2304140030_Murata-Electronics-LQH32CN331K23L_C337903.pdf; ComponentLink2Description: JLCPCB Part URL; ComponentLink2URL: https://jlcpcb.com/partdetail/C337903; ComponentLink3Description: LCSC Part URL; ComponentLink3URL: https://lcsc.com/product-detail/Inductors-SMD_Murata-Electronics-Murata-Electronics-LQH32CN331K23L_C337903.html
footprint IND-1210 (1210 (3225M) Inductor)
pins: 1, 2

## LQH32CN470K23L
designator L?  Inductance: 47uH
Inductor, 47uH, ±10%, 1.3Ω, 170mA, SMD 1210; Manufacturer: Murata Electronics; Manufacturer Part Number: LQH32CN470K23L; Package Size: 1210; JLCPCB Basic Part: No; JLCPCB Part Number: C701189; Supplier 1: LCSC; Category: Inductors; Supplier Part Number 1: C701189; Tolerance: ±10%; Rated Current: 170mA; DC Resistance: 1.3Ω; RoHS: Yes; ComponentLink1Description: Datasheet; ComponentLink1URL: https://wmsc.lcsc.com/wmsc/upload/file/pdf/v2/lcsc/2009161208_Murata-Electronics-LQH32CN470K23L_C701189.pdf; ComponentLink2Description: JLCPCB Part URL; ComponentLink2URL: https://jlcpcb.com/partdetail/C701189; ComponentLink3Description: LCSC Part URL; ComponentLink3URL: https://lcsc.com/product-detail/Power-Inductors_Murata-Electronics-Murata-Electronics-LQH32CN470K23L_C701189.html
footprint IND-1210 (1210 (3225M) Inductor)
pins: 1, 2

## LQH32CNR15M33L
designator L?  Inductance: 150nH
Inductor, 150nH, ±20%, 28mΩ, 1.45A, SMD 1210; Manufacturer: Murata Electronics; Manufacturer Part Number: LQH32CNR15M33L; Package Size: 1210; JLCPCB Basic Part: No; JLCPCB Part Number: C603135; Supplier 1: LCSC; Category: Inductors; Supplier Part Number 1: C603135; Tolerance: ±20%; Rated Current: 1.45A; DC Resistance: 28mΩ; RoHS: Yes; ComponentLink1Description: Datasheet; ComponentLink1URL: https://wmsc.lcsc.com/wmsc/upload/file/pdf/v2/lcsc/2009091507_Murata-Electronics-LQH32CNR15M33L_C603135.pdf; ComponentLink2Description: JLCPCB Part URL; ComponentLink2URL: https://jlcpcb.com/partdetail/C603135; ComponentLink3Description: LCSC Part URL; ComponentLink3URL: https://lcsc.com/product-detail/Power-Inductors_Murata-Electronics-Murata-Electronics-LQH32CNR15M33L_C603135.html
footprint IND-1210 (1210 (3225M) Inductor)
pins: 1, 2

## LQH32CNR27M33L
designator L?  Inductance: 270nH
Inductor, 270nH, ±20%, 34mΩ, 1.25A, SMD 1210; Manufacturer: Murata Electronics; Manufacturer Part Number: LQH32CNR27M33L; Package Size: 1210; JLCPCB Basic Part: No; JLCPCB Part Number: C527973; Supplier 1: LCSC; Category: Inductors; Supplier Part Number 1: C527973; Tolerance: ±20%; Rated Current: 1.25A; DC Resistance: 34mΩ; RoHS: Yes; ComponentLink1Description: Datasheet; ComponentLink1URL: https://wmsc.lcsc.com/wmsc/upload/file/pdf/v2/lcsc/2304140030_Murata-Electronics-LQH32CNR27M33L_C527973.pdf; ComponentLink2Description: JLCPCB Part URL; ComponentLink2URL: https://jlcpcb.com/partdetail/C527973; ComponentLink3Description: LCSC Part URL; ComponentLink3URL: https://lcsc.com/product-detail/Inductors-SMD_Murata-Electronics-Murata-Electronics-LQH32CNR27M33L_C527973.html
footprint IND-1210 (1210 (3225M) Inductor)
pins: 1, 2

## LQH32DN101K53L
designator L?  Inductance: 100uH
Inductor, 100uH, ±10%, 3.5Ω, SMD 1210; Manufacturer: Murata Electronics; Manufacturer Part Number: LQH32DN101K53L; Self-Resonant Frequency: 10MHz; Package Size: 1210; JLCPCB Basic Part: No; JLCPCB Part Number: C341770; Supplier 1: LCSC; Category: Inductors; Supplier Part Number 1: C341770; Tolerance: ±10%; DC Resistance: 3.5Ω; RoHS: Yes; ComponentLink1Description: Datasheet; ComponentLink1URL: https://wmsc.lcsc.com/wmsc/upload/file/pdf/v2/lcsc/2304140030_Murata-Electronics-LQH32DN101K53L_C341770.pdf; ComponentLink2Description: JLCPCB Part URL; ComponentLink2URL: https://jlcpcb.com/partdetail/C341770; ComponentLink3Description: LCSC Part URL; ComponentLink3URL: https://lcsc.com/product-detail/Inductors-SMD_Murata-Electronics-Murata-Electronics-LQH32DN101K53L_C341770.html
footprint IND-1210 (1210 (3225M) Inductor)
pins: 1, 2

## LQH32DN220K53L
designator L?  Inductance: 22uH
Inductor, 22uH, ±10%, 710mΩ, 250mA, SMD 1210; Manufacturer: Murata Electronics; Manufacturer Part Number: LQH32DN220K53L; Self-Resonant Frequency: 19MHz; Package Size: 1210; JLCPCB Basic Part: No; JLCPCB Part Number: C341772; Supplier 1: LCSC; Category: Inductors; Supplier Part Number 1: C341772; Tolerance: ±10%; Rated Current: 250mA; Saturation Current: 250mA; DC Resistance: 710mΩ; RoHS: Yes; ComponentLink1Description: Datasheet; ComponentLink1URL: https://wmsc.lcsc.com/wmsc/upload/file/pdf/v2/lcsc/2304140030_Murata-Electronics-LQH32DN220K53L_C341772.pdf; ComponentLink2Description: JLCPCB Part URL; ComponentLink2URL: https://jlcpcb.com/partdetail/C341772; ComponentLink3Description: LCSC Part URL; ComponentLink3URL: https://lcsc.com/product-detail/Inductors-SMD_Murata-Electronics-Murata-Electronics-LQH32DN220K53L_C341772.html
footprint IND-1210 (1210 (3225M) Inductor)
pins: 1, 2

## LQH32DN470K23L
designator L?  Inductance: 47uH
Inductor, 47uH, ±10%, 1.3Ω, 170mA, SMD 1210; Manufacturer: Murata Electronics; Manufacturer Part Number: LQH32DN470K23L; Self-Resonant Frequency: 15MHz; Package Size: 1210; JLCPCB Basic Part: No; JLCPCB Part Number: C1333211; Supplier 1: LCSC; Category: Inductors; Supplier Part Number 1: C1333211; Tolerance: ±10%; Rated Current: 170mA; DC Resistance: 1.3Ω; RoHS: Yes; ComponentLink1Description: Datasheet; ComponentLink1URL: https://wmsc.lcsc.com/wmsc/upload/file/pdf/v2/lcsc/2308111537_Murata-Electronics-LQH32DN470K23L_C1333211.pdf; ComponentLink2Description: JLCPCB Part URL; ComponentLink2URL: https://jlcpcb.com/partdetail/C1333211; ComponentLink3Description: LCSC Part URL; ComponentLink3URL: https://lcsc.com/product-detail/Inductors-SMD_Murata-Electronics-Murata-Electronics-LQH32DN470K23L_C1333211.html
footprint IND-1210 (1210 (3225M) Inductor)
pins: 1, 2

## LQH32MN1R2M23L
designator L?  Inductance: 1.2uH
Inductor, 1.2uH, ±20%, 600mΩ, 425mA, SMD 1210; Manufacturer: Murata Electronics; Manufacturer Part Number: LQH32MN1R2M23L; Package Size: 1210; JLCPCB Basic Part: No; JLCPCB Part Number: C603132; Supplier 1: LCSC; Category: Inductors; Supplier Part Number 1: C603132; Tolerance: ±20%; Rated Current: 425mA; DC Resistance: 600mΩ; RoHS: Yes; ComponentLink1Description: Datasheet; ComponentLink1URL: https://wmsc.lcsc.com/wmsc/upload/file/pdf/v2/lcsc/2304140030_Murata-Electronics-LQH32MN1R2M23L_C603132.pdf; ComponentLink2Description: JLCPCB Part URL; ComponentLink2URL: https://jlcpcb.com/partdetail/C603132; ComponentLink3Description: LCSC Part URL; ComponentLink3URL: https://lcsc.com/product-detail/Power-Inductors_Murata-Electronics-Murata-Electronics-LQH32MN1R2M23L_C603132.html
footprint IND-1210 (1210 (3225M) Inductor)
pins: 1, 2

## LQH32MN6R8K23L
designator L?  Inductance: 6.8uH
Inductor, 6.8uH, ±10%, 1.5Ω, 240mA, SMD 1210; Manufacturer: Murata Electronics; Manufacturer Part Number: LQH32MN6R8K23L; Package Size: 1210; JLCPCB Basic Part: No; JLCPCB Part Number: C603127; Supplier 1: LCSC; Category: Inductors; Supplier Part Number 1: C603127; Tolerance: ±10%; Rated Current: 240mA; DC Resistance: 1.5Ω; RoHS: Yes; ComponentLink1Description: Datasheet; ComponentLink1URL: https://wmsc.lcsc.com/wmsc/upload/file/pdf/v2/lcsc/2304140030_Murata-Electronics-LQH32MN6R8K23L_C603127.pdf; ComponentLink2Description: JLCPCB Part URL; ComponentLink2URL: https://jlcpcb.com/partdetail/C603127; ComponentLink3Description: LCSC Part URL; ComponentLink3URL: https://lcsc.com/product-detail/Power-Inductors_Murata-Electronics-Murata-Electronics-LQH32MN6R8K23L_C603127.html
footprint IND-1210 (1210 (3225M) Inductor)
pins: 1, 2

## LQH32MN100J23L
designator L?  Inductance: 10uH
Inductor, 10uH, ±5%, 1.8Ω, 190mA, SMD 1210; Manufacturer: Murata Electronics; Manufacturer Part Number: LQH32MN100J23L; Package Size: 1210; JLCPCB Basic Part: No; JLCPCB Part Number: C701188; Supplier 1: LCSC; Category: Inductors; Supplier Part Number 1: C701188; Tolerance: ±5%; Rated Current: 190mA; DC Resistance: 1.8Ω; RoHS: Yes; ComponentLink1Description: Datasheet; ComponentLink1URL: https://wmsc.lcsc.com/wmsc/upload/file/pdf/v2/lcsc/2009091507_Murata-Electronics-LQH32MN100J23L_C701188.pdf; ComponentLink2Description: JLCPCB Part URL; ComponentLink2URL: https://jlcpcb.com/partdetail/C701188; ComponentLink3Description: LCSC Part URL; ComponentLink3URL: https://lcsc.com/product-detail/Power-Inductors_Murata-Electronics-Murata-Electronics-LQH32MN100J23L_C701188.html
footprint IND-1210 (1210 (3225M) Inductor)
pins: 1, 2

## LQH32MN100K23L
designator L?  Inductance: 10uH
Inductor, 10uH, ±10%, 1.8Ω, 190mA, SMD 1210; Manufacturer: Murata Electronics; Manufacturer Part Number: LQH32MN100K23L; Self-Resonant Frequency: 20MHz; Q Factor: 35@1MHz; Package Size: 1210; JLCPCB Basic Part: No; JLCPCB Part Number: C603134; Supplier 1: LCSC; Category: Inductors; Supplier Part Number 1: C603134; Tolerance: ±10%; Rated Current: 190mA; DC Resistance: 1.8Ω; RoHS: Yes; ComponentLink1Description: Datasheet; ComponentLink1URL: https://wmsc.lcsc.com/wmsc/upload/file/pdf/v2/lcsc/2304140030_Murata-Electronics-LQH32MN100K23L_C603134.pdf; ComponentLink2Description: JLCPCB Part URL; ComponentLink2URL: https://jlcpcb.com/partdetail/C603134; ComponentLink3Description: LCSC Part URL; ComponentLink3URL: https://lcsc.com/product-detail/Inductors-SMD_Murata-Electronics-Murata-Electronics-LQH32MN100K23L_C603134.html
footprint IND-1210 (1210 (3225M) Inductor)
pins: 1, 2

## LQH32MN150J23L
designator L?  Inductance: 15uH
Inductor, 15uH, ±5%, 2.2Ω, 170mA, SMD 1210; Manufacturer: Murata Electronics; Manufacturer Part Number: LQH32MN150J23L; Package Size: 1210; JLCPCB Basic Part: No; JLCPCB Part Number: C701187; Supplier 1: LCSC; Category: Inductors; Supplier Part Number 1: C701187; Tolerance: ±5%; Rated Current: 170mA; DC Resistance: 2.2Ω; RoHS: Yes; ComponentLink1Description: Datasheet; ComponentLink1URL: https://wmsc.lcsc.com/wmsc/upload/file/pdf/v2/lcsc/2010231205_Murata-Electronics-LQH32MN150J23L_C701187.pdf; ComponentLink2Description: JLCPCB Part URL; ComponentLink2URL: https://jlcpcb.com/partdetail/C701187; ComponentLink3Description: LCSC Part URL; ComponentLink3URL: https://lcsc.com/product-detail/Power-Inductors_Murata-Electronics-Murata-Electronics-LQH32MN150J23L_C701187.html
footprint IND-1210 (1210 (3225M) Inductor)
pins: 1, 2

## LQH32MN151J23L
designator L?  Inductance: 150uH
Inductor, 150uH, ±5%, 9.3Ω, 70mA, SMD 1210; Manufacturer: Murata Electronics; Manufacturer Part Number: LQH32MN151J23L; Package Size: 1210; JLCPCB Basic Part: No; JLCPCB Part Number: C603133; Supplier 1: LCSC; Category: Inductors; Supplier Part Number 1: C603133; Tolerance: ±5%; Rated Current: 70mA; DC Resistance: 9.3Ω; RoHS: Yes; ComponentLink1Description: Datasheet; ComponentLink1URL: https://wmsc.lcsc.com/wmsc/upload/file/pdf/v2/lcsc/2304140030_Murata-Electronics-LQH32MN151J23L_C603133.pdf; ComponentLink2Description: JLCPCB Part URL; ComponentLink2URL: https://jlcpcb.com/partdetail/C603133; ComponentLink3Description: LCSC Part URL; ComponentLink3URL: https://lcsc.com/product-detail/Power-Inductors_Murata-Electronics-Murata-Electronics-LQH32MN151J23L_C603133.html
footprint IND-1210 (1210 (3225M) Inductor)
pins: 1, 2

## LQH32MN220J23L
designator L?  Inductance: 22uH
Inductor, 22uH, ±5%, 2.8Ω, 150mA, SMD 1210; Manufacturer: Murata Electronics; Manufacturer Part Number: LQH32MN220J23L; Self-Resonant Frequency: 14MHz; Q Factor: 35@1MHz; Package Size: 1210; JLCPCB Basic Part: No; JLCPCB Part Number: C307598; Supplier 1: LCSC; Category: Inductors; Supplier Part Number 1: C307598; Tolerance: ±5%; Rated Current: 150mA; DC Resistance: 2.8Ω; RoHS: Yes; ComponentLink1Description: Datasheet; ComponentLink1URL: https://wmsc.lcsc.com/wmsc/upload/file/pdf/v2/lcsc/2304140030_Murata-Electronics-LQH32MN220J23L_C307598.pdf; ComponentLink2Description: JLCPCB Part URL; ComponentLink2URL: https://jlcpcb.com/partdetail/C307598; ComponentLink3Description: LCSC Part URL; ComponentLink3URL: https://lcsc.com/product-detail/Inductors-SMD_Murata-Electronics-Murata-Electronics-LQH32MN220J23L_C307598.html
footprint IND-1210 (1210 (3225M) Inductor)
pins: 1, 2